# Altium footprint library led.PCBLIB: 116 footprints (part 4 of 8)
Each footprint in its own frame and in the unit in brackets; x right, y up, seen from the top. Pads: shape width x height; smd on the part's side, far side on the other; paste and mask are expansions set on the pad; w line width, h text height; cw(c..) or ccw(c..) is an arc to the next point about the centre after c.
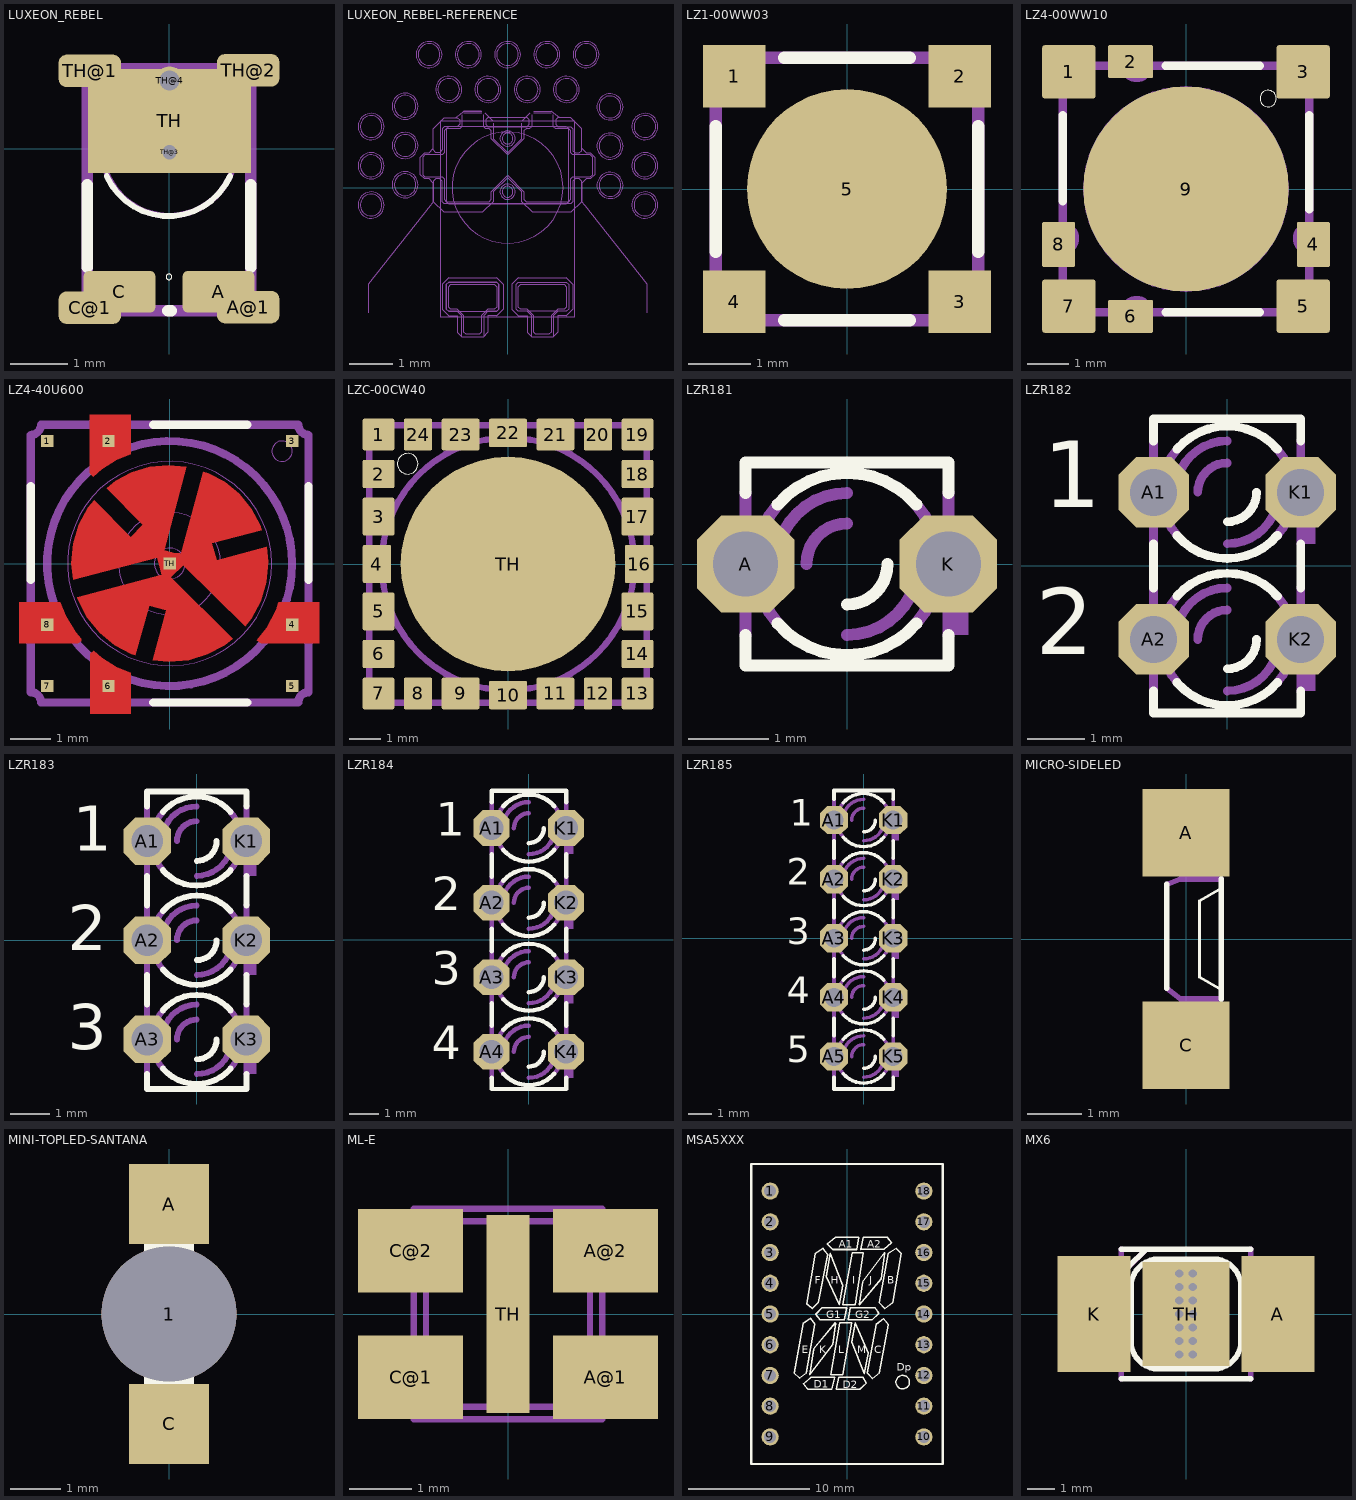
[diagram p3: the footprints below, top view; thin cyan lines are the x and y axes]

## LUXEON_REBEL [mm]
pads (9):
  rrect25% 1.26x0.73 smd: A(0.87,-2.51) C(-0.87,-2.51)
  rrect50% 1.1x0.57 smd: A@1(1.39,-2.78) C@1(-1.39,-2.79) TH@1(-1.39,1.37) TH@2(1.39,1.38)
  rect 2.86x1.83 smd: TH(0.01,0.49)
  round 0.35 hole 0.25: TH@3(0.01,-0.06)
  round 0.5 hole 0.35: TH@4(0.01,1.2)
Top Overlay:
  circle w0: c0,-2.248 r0.05
  lines w0.102: -1.095,-0.475 ccw(c-0.01,0.005) 1.075,-0.475
  lines w0.203: -1.435,-2.083 -1.435,-0.627 ; -0.018,-2.845 0.038,-2.845 ; 1.435,-2.083 1.435,-0.627
Top Paste:
  region: -0.52,1.33 -0.53,1.2 -0.489,0.993 -0.372,0.818 -0.197,0.701 0.01,0.66 0.01,0.67 0.01,0.48 -0.197,0.439 -0.372,0.322 -0.489,0.147 -0.53,-0.06 -0.52,-0.06 -0.52,-0.23 -1.37,-0.23 -1.37,1.02 -1.85,1.5 -1.831,1.597 -1.745,1.725 -1.617,1.811 -1.52,1.831 -1.52,1.83 -1.02,1.33
  region: 0.54,-0.23 0.55,-0.06 0.509,0.147 0.392,0.322 0.217,0.439 0.01,0.48 0.01,0.47 0.01,0.66 0.217,0.701 0.392,0.818 0.509,0.993 0.55,1.2 0.54,1.2 0.54,1.33 1.01,1.33 1.51,1.832 1.62,1.81 1.74,1.73 1.82,1.61 1.842,1.5 1.84,1.5 1.37,1.03 1.37,-0.23
  region: 0.37,-2.74 0.37,-2.28 1.37,-2.28 1.37,-2.43 1.85,-2.91 1.831,-3.007 1.745,-3.135 1.617,-3.221 1.52,-3.241 1.52,-3.24 1.02,-2.74
  region: -0.37,-2.28 -0.37,-2.74 -1.01,-2.74 -1.51,-3.242 -1.62,-3.22 -1.74,-3.14 -1.82,-3.02 -1.842,-2.91 -1.84,-2.91 -1.37,-2.44 -1.37,-2.28
Top Solder:
  circle w0: c0.01,-0.06 r0.22
  circle w0: c0.01,1.2 r0.22
  region: 0.37,-2.74 0.37,-2.28 1.37,-2.28 1.37,-2.43 1.85,-2.91 1.831,-3.007 1.745,-3.135 1.617,-3.221 1.52,-3.241 1.52,-3.24 1.02,-2.74
  region: -0.37,-2.28 -0.37,-2.74 -1.01,-2.74 -1.51,-3.242 -1.62,-3.22 -1.74,-3.14 -1.82,-3.02 -1.842,-2.91 -1.84,-2.91 -1.37,-2.44 -1.37,-2.28
  region: -0.52,1.33 -0.53,1.2 -0.489,0.993 -0.372,0.818 -0.197,0.701 0.01,0.66 0.01,0.67 0.01,0.48 -0.197,0.439 -0.372,0.322 -0.489,0.147 -0.53,-0.06 -0.52,-0.06 -0.52,-0.23 -1.37,-0.23 -1.37,1.02 -1.85,1.5 -1.831,1.597 -1.745,1.725 -1.617,1.811 -1.52,1.831 -1.52,1.83 -1.02,1.33
  region: 0.54,-0.23 0.55,-0.06 0.509,0.147 0.392,0.322 0.217,0.439 0.01,0.48 0.01,0.47 0.01,0.66 0.217,0.701 0.392,0.818 0.509,0.993 0.55,1.2 0.54,1.2 0.54,1.33 1.01,1.33 1.51,1.832 1.62,1.81 1.74,1.73 1.82,1.61 1.842,1.5 1.84,1.5 1.37,1.03 1.37,-0.23
Mechanical 16:
  circle w0.102: c0,0 r1.175
  circle w0: c1.25,1.25 r0.05
  lines w0.203: -1.435,-2.845 1.435,-2.845 1.435,1.405 -1.435,1.405 -1.435,-2.845

## LUXEON_REBEL-REFERENCE [mil]
Mechanical 14:
  drawing of 319 lines, arcs and shapes, not listed

## LZ1-00WW03 [mm]
pads (5):
  rect 1x1 smd: 1(-1.8,1.8) 2(1.8,1.8) 3(1.8,-1.8) 4(-1.8,-1.8)
  rrect100% 3.2x3.2 smd: 5(0,0)
Top Overlay:
  lines w0.203: -2.1,-1 -2.1,1 ; -1,-2.1 1,-2.1 ; -1,2.1 1,2.1 ; 2.1,-1 2.1,1
Top Paste:
  region: 0,0 0.254,0 0.254,0.254 0,0.254
  region: 0,0 0.254,0 0.254,0.254 0,0.254
  region: 0,0 0.254,0 0.254,0.254 0,0.254
  region: 0,0 0.254,0 0.254,0.254 0,0.254
Top Solder:
  region: 0,0 0.254,0 0.254,0.254 0,0.254
  region: 0,0 0.254,0 0.254,0.254 0,0.254
  region: 0,0 0.254,0 0.254,0.254 0,0.254
  region: 0,0 0.254,0 0.254,0.254 0,0.254
Mechanical 16:
  lines w0.203: -2.1,-1.8 -2.1,1.8 ccw(c-2.1,2.1) -1.8,2.1 1.8,2.1 ccw(c2.1,2.1) 2.1,1.8 2.1,-1.8 ccw(c2.1,-2.1) 1.8,-2.1 -1.8,-2.1 ccw(c-2.1,-2.1) -2.1,-1.8
  text "+" at 1.2,1.025 h0.86
  text "+" at 1.2,-2.05 h0.86
  text "-" at -1.825,1.05 h0.86
  text "-" at -1.85,-2.05 h0.86

## LZ4-00WW10 [mm]
pads (9):
  rrect10% 1.3x1.3 smd: 1(-2.85,2.85) 3(2.85,2.85) 5(2.85,-2.85) 7(-2.85,-2.85)
  rrect10% 1.1x0.8 smd: 2(-1.35,3.1) 6(-1.35,-3.1)
  rrect10% 0.8x1.1 smd: 4(3.1,-1.35) 8(-3.1,-1.35)
  rrect100% 5x5 smd: 9(0,0)
Top Overlay:
  circle w0: c2,2.2 r0.2
  lines w0.203: -3,-0.3 -3,1.8 ; -0.5,-3 1.8,-3 ; -0.5,3 1.8,3 ; 3,-0.5 3,1.8
Mechanical 16:
  circle w0.203: c0,0 r2.4
  lines w0.203: -3,-3 -3,-1.5 ccw(c-3,-1.2) -2.7,-1.2 ccw(c-3,-1.2) -3,-0.9 -3,3 -1.5,3 ccw(c-1.2,3) -1.2,2.7 ccw(c-1.2,3) -0.9,3 3,3 3,-0.9 ccw(c3,-1.2) 2.7,-1.2 ccw(c3,-1.2) 3,-1.5 3,-3 -0.9,-3 ccw(c-1.2,-3) -1.2,-2.7 ccw(c-1.2,-3) -1.5,-3 -3,-3

## LZ4-40U600 [mm]
pads (9):
  rect 0.3x0.3 smd: 1(-3,3) 2(-1.5,3) 3(3,3) 4(3,-1.5) 5(3,-3) 6(-1.5,-3) 7(-3,-3) 8(-3,-1.5) TH(0,0)
Top Layer:
  region: -2.366,-0.403 -2.407,0.009 -2.359,0.488 -2.22,0.948 -1.993,1.372 -1.848,1.549 -0.951,0.639 -0.653,0.953 -1.544,1.842 -1.323,2.023 -0.924,2.236 -0.491,2.367 -0.04,2.412 0.41,2.367 0.408,2.357 -0.131,0.329 0.277,0.219 0.824,2.251 0.944,2.215 1.351,1.997 1.708,1.704 2.001,1.347 2.218,0.94 2.254,0.821 2.252,0.82 1.037,0.493 1.154,0.083 2.38,0.414 2.419,0.025 2.371,-0.459 2.229,-0.925 2,-1.355 1.848,-1.54 0.332,-0.045 0.032,-0.33 1.54,-1.839 1.349,-1.996 0.924,-2.223 0.463,-2.363 -0.017,-2.41 -0.408,-2.371 -0.408,-2.367 -0.086,-1.148 -0.495,-1.031 -0.838,-2.247 -0.923,-2.222 -1.345,-1.996 -1.714,-1.693 -2.018,-1.323 -2.243,-0.901 -2.264,-0.832 -2.259,-0.83 -0.192,-0.279 -0.307,0.144
  region: 0,0 0.254,0 0.254,0.254 0,0.254
  region: -1.954,3.641 -0.956,3.641 -0.958,2.675 -1.296,2.535 -1.66,2.312 -1.876,2.128 -1.875,2.127 -1.885,2.14 -1.954,2.21
  region: 0,0 0.254,0 0.254,0.254 0,0.254
  region: 3.657,-0.953 3.657,-1.947 2.226,-1.947 2.128,-1.878 2.375,-1.576 2.611,-1.134 2.663,-0.963 2.662,-0.962 2.671,-0.953
  region: 0,0 0.254,0 0.254,0.254 0,0.254
  region: -1.943,-3.673 -1.943,-2.205 -1.934,-2.194 -1.863,-2.138 -1.663,-2.308 -1.289,-2.537 -0.957,-2.675 -0.956,-2.671 -0.956,-3.673
  region: 0,0 0.254,0 0.254,0.254 0,0.254
  region: -3.689,-1.95 -3.689,-0.944 -2.735,-0.944 -2.678,-0.951 -2.54,-1.283 -2.296,-1.682 -2.163,-1.838 -2.163,-1.837 -2.162,-1.908 -2.242,-1.95
Top Overlay:
  lines w0.2: -3.4,-0.4 -3.4,1.9 ; -0.4,-3.4 1.9,-3.4 ; -0.4,3.4 1.9,3.4 ; 3.4,-0.4 3.4,1.9
Top Paste:
  region: 0,0 0.254,0 0.254,0.254 0,0.254
  region: -1.954,3.641 -0.956,3.641 -0.958,2.675 -1.296,2.535 -1.66,2.312 -1.876,2.128 -1.875,2.127 -1.885,2.14 -1.954,2.21
  region: 0,0 0.254,0 0.254,0.254 0,0.254
  region: 3.657,-0.953 3.657,-1.947 2.226,-1.947 2.128,-1.878 2.375,-1.576 2.611,-1.134 2.663,-0.963 2.662,-0.962 2.671,-0.953
  region: 0,0 0.254,0 0.254,0.254 0,0.254
  region: -1.943,-3.673 -1.943,-2.205 -1.934,-2.194 -1.863,-2.138 -1.663,-2.308 -1.289,-2.537 -0.957,-2.675 -0.956,-2.671 -0.956,-3.673
  region: 0,0 0.254,0 0.254,0.254 0,0.254
  region: -3.689,-1.95 -3.689,-0.944 -2.735,-0.944 -2.678,-0.951 -2.54,-1.283 -2.296,-1.682 -2.163,-1.838 -2.163,-1.837 -2.162,-1.908 -2.242,-1.95
  region: -2.366,-0.403 -2.407,0.009 -2.359,0.488 -2.22,0.948 -1.993,1.372 -1.848,1.549 -0.951,0.639 -0.653,0.953 -1.544,1.842 -1.323,2.023 -0.924,2.236 -0.491,2.367 -0.04,2.412 0.41,2.367 0.408,2.357 -0.131,0.329 0.277,0.219 0.824,2.251 0.944,2.215 1.351,1.997 1.708,1.704 2.001,1.347 2.218,0.94 2.254,0.821 2.252,0.82 1.037,0.493 1.154,0.083 2.38,0.414 2.419,0.025 2.371,-0.459 2.229,-0.925 2,-1.355 1.848,-1.54 0.332,-0.045 0.032,-0.33 1.54,-1.839 1.349,-1.996 0.924,-2.223 0.463,-2.363 -0.017,-2.41 -0.408,-2.371 -0.408,-2.367 -0.086,-1.148 -0.495,-1.031 -0.838,-2.247 -0.923,-2.222 -1.345,-1.996 -1.714,-1.693 -2.018,-1.323 -2.243,-0.901 -2.264,-0.832 -2.259,-0.83 -0.192,-0.279 -0.307,0.144
Top Solder:
  region: -2.366,-0.403 -2.407,0.009 -2.359,0.488 -2.22,0.948 -1.993,1.372 -1.848,1.549 -0.951,0.639 -0.653,0.953 -1.544,1.842 -1.323,2.023 -0.924,2.236 -0.491,2.367 -0.04,2.412 0.41,2.367 0.408,2.357 -0.131,0.329 0.277,0.219 0.824,2.251 0.944,2.215 1.351,1.997 1.708,1.704 2.001,1.347 2.218,0.94 2.254,0.821 2.252,0.82 1.037,0.493 1.154,0.083 2.38,0.414 2.419,0.025 2.371,-0.459 2.229,-0.925 2,-1.355 1.848,-1.54 0.332,-0.045 0.032,-0.33 1.54,-1.839 1.349,-1.996 0.924,-2.223 0.463,-2.363 -0.017,-2.41 -0.408,-2.371 -0.408,-2.367 -0.086,-1.148 -0.495,-1.031 -0.838,-2.247 -0.923,-2.222 -1.345,-1.996 -1.714,-1.693 -2.018,-1.323 -2.243,-0.901 -2.264,-0.832 -2.259,-0.83 -0.192,-0.279 -0.307,0.144
  region: 0,0 0.254,0 0.254,0.254 0,0.254
  region: -1.954,3.641 -0.956,3.641 -0.958,2.675 -1.296,2.535 -1.66,2.312 -1.876,2.128 -1.875,2.127 -1.885,2.14 -1.954,2.21
  region: 0,0 0.254,0 0.254,0.254 0,0.254
  region: 3.657,-0.953 3.657,-1.947 2.226,-1.947 2.128,-1.878 2.375,-1.576 2.611,-1.134 2.663,-0.963 2.662,-0.962 2.671,-0.953
  region: 0,0 0.254,0 0.254,0.254 0,0.254
  region: -1.943,-3.673 -1.943,-2.205 -1.934,-2.194 -1.863,-2.138 -1.663,-2.308 -1.289,-2.537 -0.957,-2.675 -0.956,-2.671 -0.956,-3.673
  region: 0,0 0.254,0 0.254,0.254 0,0.254
  region: -3.689,-1.95 -3.689,-0.944 -2.735,-0.944 -2.678,-0.951 -2.54,-1.283 -2.296,-1.682 -2.163,-1.838 -2.163,-1.837 -2.162,-1.908 -2.242,-1.95
Mechanical 14:
  circle w0: c0,0 r1.25
  circle w0: c0,0 r0.38
  circle w0: c0,0 r2.5
Mechanical 16:
  circle w0.2: c0,0 r3
  circle w0: c2.75,2.75 r0.25
  lines w0.2: -3.4,-3.15 -3.4,-1.85 ccw(c-3.4,-1.6) -3.15,-1.6 ccw(c-3.4,-1.6) -3.4,-1.35 -3.4,3.15 ccw(c-3.4,3.4) -3.15,3.4 -1.85,3.4 ccw(c-1.6,3.4) -1.6,3.15 ccw(c-1.6,3.4) -1.35,3.4 3.15,3.4 ccw(c3.4,3.4) 3.4,3.15 3.4,-1.35 ccw(c3.4,-1.6) 3.15,-1.6 ccw(c3.4,-1.6) 3.4,-1.85 3.4,-3.15 ccw(c3.4,-3.4) 3.15,-3.4 -1.35,-3.4 ccw(c-1.6,-3.4) -1.6,-3.15 ccw(c-1.6,-3.4) -1.85,-3.4 -3.15,-3.4 ccw(c-3.4,-3.4) -3.4,-3.15

## LZC-00CW40 [mm]
pads (25):
  rrect10% 1x1 smd: 1(-4.1,4.1) 7(-4.1,-4.1) 13(4.1,-4.1) 19(4.1,4.1)
  rrect10% 1x0.9 smd: 2(-4.1,2.85) 6(-4.1,-2.85) 14(4.1,-2.85) 18(4.1,2.85)
  rrect10% 1x1.2 smd: 3(-4.1,1.5) 5(-4.1,-1.5) 15(4.1,-1.5) 17(4.1,1.5)
  rrect10% 0.9x1.2 smd: 4(-4.15,0) 16(4.15,0)
  rrect10% 0.9x1 smd: 8(-2.85,-4.1) 12(2.85,-4.1) 20(2.85,4.1) 24(-2.85,4.1)
  rrect10% 1.2x1 smd: 9(-1.5,-4.1) 11(1.5,-4.1) 21(1.5,4.1) 23(-1.5,4.1)
  rrect10% 1.2x0.9 smd: 10(0,-4.15) 22(0,4.15)
  rrect100% 6.8x6.8 smd: TH(0,0)
Top Overlay:
  circle w0: c-3.175,3.175 r0.326
Mechanical 16:
  circle w0.203: c0,0 r4
  rectangle: 0.2,0.2 1.2,1.2
  rectangle: -1.2,0.2 -0.2,1.2
  rectangle: -1.2,1.6 -0.2,2.6
  rectangle: -2.6,0.2 -1.6,1.2
  rectangle: 0.2,1.6 1.2,2.6
  rectangle: 1.6,0.2 2.6,1.2
  rectangle: -1.2,-1.2 -0.2,-0.2
  rectangle: 0.2,-1.2 1.2,-0.2
  rectangle: 1.6,-1.2 2.6,-0.2
  rectangle: -2.6,-1.2 -1.6,-0.2
  rectangle: -1.2,-2.6 -0.2,-1.6
  rectangle: 0.2,-2.6 1.2,-1.6
  lines w0.203: -4.4,-4.4 -4.4,4.4 4.4,4.4 4.4,-4.4 -4.4,-4.4

## LZR181 [mil]
pads (2):
  oct 48x48 hole 32: A(-50,0) K(50,0)
Top Overlay:
  lines w6: -50,-35 -50,-50 50,-50 50,-35 ; -50,35 -50,50 50,50 50,35 ; -34.17,-29.29 ccw(c-0.01,0) 0,-45 ccw(c0.01,0) 34.17,-29.29 ; -34.17,29.29 cw(c-0.01,0) 0,45 cw(c0.01,0) 34.17,29.29 ; 0,-20 ccw(c0,0) 20,0
Mechanical 16:
  rectangle: 50,-35 60,10
  rectangle: -60,-10 -50,10
  lines w6: -50,-35 -50,35 ; -35,0 cw(c0,0) 0,35 ; -34.17,-29.29 cw(c0,-0.01) -45,0 cw(c0,0.01) -34.17,29.29 ; -20,0 cw(c0,0) 0,20 ; 0,-35 ccw(c0,0) 35,0 ; 34.17,-29.29 ccw(c0,-0.01) 45,0 ccw(c0,0.01) 34.17,29.29 ; 50,-35 50,35

## LZR182 [mil]
pads (4):
  oct 48x48 hole 32: A1(-50,50) A2(-50,-50) K1(50,50) K2(50,-50)
Top Overlay:
  lines w6: -50,-85 -50,-100 50,-100 50,-85 ; -50,-15 -50,15 ; -50,85 -50,100 50,100 50,85 ; -34.17,-79.29 ccw(c-0.01,-50) 0,-95 ccw(c0.01,-50) 34.17,-79.29 ; -34.17,-20.71 cw(c-0.01,-50) 0,-5 cw(c0.01,-50) 34.17,-20.71 ; -34.17,20.71 ccw(c-0.01,50) 0,5 ccw(c0.01,50) 34.17,20.71 ; -34.17,79.29 cw(c-0.01,50) 0,95 cw(c0.01,50) 34.17,79.29 ; 0,-70 ccw(c0,-50) 20,-50 ; 0,30 ccw(c0,50) 20,50 ; 50,-15 50,15
  text "1" at -125,25 h77.5
  text "2" at -130,-75 h77.5
Mechanical 16:
  rectangle: 50,15 60,60
  rectangle: -60,40 -50,60
  rectangle: 50,-85 60,-40
  rectangle: -60,-60 -50,-40
  lines w6: -50,-85 -50,-15 ; -50,15 -50,85 ; -35,-50 cw(c0,-50) 0,-15 ; -35,50 cw(c0,50) 0,85 ; -34.16,-79.29 cw(c0,-50) -45,-50 cw(c0,-49.99) -34.17,-20.71 ; -34.17,20.71 cw(c0,49.99) -45,50 cw(c0,50) -34.16,79.29 ; -20,-50 cw(c0,-50) 0,-30 ; -20,50 cw(c0,50) 0,70 ; 0,-85 ccw(c0,-50) 35,-50 ; 0,15 ccw(c0,50) 35,50 ; 34.17,-79.29 ccw(c0,-50.01) 45,-50 ccw(c0,-49.99) 34.17,-20.71 ; 34.17,20.71 ccw(c0,49.99) 45,50 ccw(c0,50.01) 34.17,79.29 ; 50,-85 50,-15 ; 50,15 50,85

## LZR183 [mil]
pads (6):
  oct 48x48 hole 32: A1(-50,100) A2(-50,0) A3(-50,-100) K1(50,100) K2(50,0) K3(50,-100)
Top Overlay:
  lines w6: -50,-135 -50,-150 50,-150 50,-135 ; -50,-65 -50,-35 ; -50,35 -50,65 ; -50,135 -50,150 50,150 50,135 ; -34.17,-129.29 ccw(c-0.01,-100) 0,-145 ccw(c0.01,-100) 34.17,-129.29 ; -34.17,-70.71 cw(c-0.01,-100) 0,-55 cw(c0.01,-100) 34.17,-70.71 ; -34.17,-29.29 ccw(c-0.01,0) 0,-45 ccw(c0.01,0) 34.17,-29.29 ; -34.17,29.29 cw(c-0.01,0) 0,45 cw(c0.01,0) 34.17,29.29 ; -34.17,70.71 ccw(c-0.01,100) 0,55 ccw(c0.01,100) 34.17,70.71 ; -34.17,129.29 cw(c-0.01,100) 0,145 cw(c0.01,100) 34.17,129.29 ; 0,-120 ccw(c0,-100) 20,-100 ; 0,-20 ccw(c0,0) 20,0 ; 0,80 ccw(c0,100) 20,100 ; 50,-65 50,-35 ; 50,35 50,65
  text "1" at -125,75 h77.5
  text "2" at -130,-25 h77.5
  text "3" at -130,-125 h77.5
Mechanical 16:
  rectangle: 50,65 60,110
  rectangle: -60,90 -50,110
  rectangle: 50,-35 60,10
  rectangle: -60,-10 -50,10
  rectangle: 50,-135 60,-90
  rectangle: -60,-110 -50,-90
  lines w6: -50,-135 -50,-65 ; -50,-35 -50,35 ; -50,65 -50,135 ; -35,-100 cw(c0,-100) 0,-65 ; -35,0 cw(c0,0) 0,35 ; -35,100 cw(c0,100) 0,135 ; -34.16,-129.29 cw(c0,-100) -45,-100 cw(c0,-99.99) -34.17,-70.71 ; -34.17,-29.29 cw(c0,-0.01) -45,0 cw(c0,0.01) -34.17,29.29 ; -34.17,70.71 cw(c0,99.99) -45,100 cw(c0,100) -34.16,129.29 ; -20,-100 cw(c0,-100) 0,-80 ; -20,0 cw(c0,0) 0,20 ; -20,100 cw(c0,100) 0,120 ; 0,-135 ccw(c0,-100) 35,-100 ; 0,-35 ccw(c0,0) 35,0 ; 0,65 ccw(c0,100) 35,100 ; 34.17,-129.29 ccw(c0,-100.01) 45,-100 ccw(c0,-99.99) 34.17,-70.71 ; 34.17,-29.29 ccw(c0,-0.01) 45,0 ccw(c0,0.01) 34.17,29.29 ; 34.17,70.71 ccw(c0,99.99) 45,100 ccw(c0,100.01) 34.17,129.29 ; 50,-135 50,-65 ; 50,-35 50,35 ; 50,65 50,135

## LZR184 [mil]
pads (8):
  oct 48x48 hole 32: A1(-50,150) A2(-50,50) A3(-50,-50) A4(-50,-150) K1(50,150) K2(50,50) K3(50,-50) K4(50,-150)
Top Overlay:
  lines w6: -50,-185 -50,-200 50,-200 50,-185 ; -50,-115 -50,-85 ; -50,-15 -50,15 ; -50,85 -50,115 ; -50,185 -50,200 50,200 50,185 ; -34.17,-179.29 ccw(c-0.01,-150) 0,-195 ccw(c0.01,-150) 34.17,-179.29 ; -34.17,-120.71 cw(c-0.01,-150) 0,-105 cw(c0.01,-150) 34.17,-120.71 ; -34.17,-79.29 ccw(c-0.01,-50) 0,-95 ccw(c0.01,-50) 34.17,-79.29 ; -34.17,-20.71 cw(c-0.01,-50) 0,-5 cw(c0.01,-50) 34.17,-20.71 ; -34.17,20.71 ccw(c-0.01,50) 0,5 ccw(c0.01,50) 34.17,20.71 ; -34.17,79.29 cw(c-0.01,50) 0,95 cw(c0.01,50) 34.17,79.29 ; -34.17,120.71 ccw(c-0.01,150) 0,105 ccw(c0.01,150) 34.17,120.71 ; -34.17,179.29 cw(c-0.01,150) 0,195 cw(c0.01,150) 34.17,179.29 ; 0,-170 ccw(c0,-150) 20,-150 ; 0,-70 ccw(c0,-50) 20,-50 ; 0,30 ccw(c0,50) 20,50 ; 0,130 ccw(c0,150) 20,150 ; 50,-115 50,-85 ; 50,-15 50,15 ; 50,85 50,115
  text "1" at -125,125 h77.5
  text "2" at -130,25 h77.5
  text "3" at -130,-75 h77.5
  text "4" at -130,-175 h77.5
Mechanical 16:
  rectangle: 50,115 60,160
  rectangle: -60,140 -50,160
  rectangle: 50,15 60,60
  rectangle: -60,40 -50,60
  rectangle: 50,-85 60,-40
  rectangle: -60,-60 -50,-40
  rectangle: 50,-185 60,-140
  rectangle: -60,-160 -50,-140
  lines w6: -50,-185 -50,-115 ; -50,-85 -50,-15 ; -50,15 -50,85 ; -50,115 -50,185 ; -35,-150 cw(c0,-150) 0,-115 ; -35,-50 cw(c0,-50) 0,-15 ; -35,50 cw(c0,50) 0,85 ; -35,150 cw(c0,150) 0,185 ; -34.16,-179.29 cw(c0,-150) -45,-150 cw(c0,-149.99) -34.17,-120.71 ; -34.16,-79.29 cw(c0,-50) -45,-50 cw(c0,-49.99) -34.17,-20.71 ; -34.17,20.71 cw(c0,49.99) -45,50 cw(c0,50) -34.16,79.29 ; -34.17,120.71 cw(c0,149.99) -45,150 cw(c0,150) -34.16,179.29 ; -20,-150 cw(c0,-150) 0,-130 ; -20,-50 cw(c0,-50) 0,-30 ; -20,50 cw(c0,50) 0,70 ; -20,150 cw(c0,150) 0,170 ; 0,-185 ccw(c0,-150) 35,-150 ; 0,-85 ccw(c0,-50) 35,-50 ; 0,15 ccw(c0,50) 35,50 ; 0,115 ccw(c0,150) 35,150 ; 34.17,-179.29 ccw(c0,-150.01) 45,-150 ccw(c0,-149.99) 34.17,-120.71 ; 34.17,-79.29 ccw(c0,-50.01) 45,-50 ccw(c0,-49.99) 34.17,-20.71 ; 34.17,20.71 ccw(c0,49.99) 45,50 ccw(c0,50.01) 34.17,79.29 ; 34.17,120.71 ccw(c0,149.99) 45,150 ccw(c0,150.01) 34.17,179.29 ; 50,-185 50,-115 ; 50,-85 50,-15 ; 50,15 50,85 ; 50,115 50,185

## LZR185 [mil]
pads (10):
  oct 48x48 hole 32: A1(-50,200) A2(-50,100) A3(-50,0) A4(-50,-100) A5(-50,-200) K1(50,200) K2(50,100) K3(50,0) K4(50,-100) K5(50,-200)
Top Overlay:
  lines w6: -50,-235 -50,-255 50,-255 50,-235 ; -50,-165 -50,-135 ; -50,-65 -50,-35 ; -50,35 -50,65 ; -50,135 -50,165 ; -50,235 -50,250 50,250 50,235 ; -34.17,-229.29 ccw(c-0.01,-200) 0,-245 ccw(c0.01,-200) 34.17,-229.29 ; -34.17,-170.71 cw(c-0.01,-200) 0,-155 cw(c0.01,-200) 34.17,-170.71 ; -34.17,-129.29 ccw(c-0.01,-100) 0,-145 ccw(c0.01,-100) 34.17,-129.29 ; -34.17,-70.71 cw(c-0.01,-100) 0,-55 cw(c0.01,-100) 34.17,-70.71 ; -34.17,-29.29 ccw(c-0.01,0) 0,-45 ccw(c0.01,0) 34.17,-29.29 ; -34.17,29.29 cw(c-0.01,0) 0,45 cw(c0.01,0) 34.17,29.29 ; -34.17,70.71 ccw(c-0.01,100) 0,55 ccw(c0.01,100) 34.17,70.71 ; -34.17,129.29 cw(c-0.01,100) 0,145 cw(c0.01,100) 34.17,129.29 ; -34.17,170.71 ccw(c-0.01,200) 0,155 ccw(c0.01,200) 34.17,170.71 ; -34.17,229.29 cw(c-0.01,200) 0,245 cw(c0.01,200) 34.17,229.29 ; 0,-220 ccw(c0,-200) 20,-200 ; 0,-120 ccw(c0,-100) 20,-100 ; 0,-20 ccw(c0,0) 20,0 ; 0,80 ccw(c0,100) 20,100 ; 0,180 ccw(c0,200) 20,200 ; 50,-165 50,-135 ; 50,-65 50,-35 ; 50,35 50,65 ; 50,135 50,165
  text "1" at -125,175 h77.5
  text "2" at -130,75 h77.5
  text "3" at -130,-25 h77.5
  text "4" at -130,-125 h77.5
  text "5" at -130,-225 h77.5
Mechanical 16:
  rectangle: 50,165 60,210
  rectangle: -60,190 -50,210
  rectangle: 50,65 60,110
  rectangle: -60,90 -50,110
  rectangle: 50,-35 60,10
  rectangle: -60,-10 -50,10
  rectangle: 50,-135 60,-90
  rectangle: -60,-110 -50,-90
  rectangle: 50,-235 60,-190
  rectangle: -60,-210 -50,-190
  lines w6: -50,-235 -50,-165 ; -50,-135 -50,-65 ; -50,-35 -50,35 ; -50,65 -50,135 ; -50,165 -50,235 ; -35,-200 cw(c0,-200) 0,-165 ; -35,-100 cw(c0,-100) 0,-65 ; -35,0 cw(c0,0) 0,35 ; -35,100 cw(c0,100) 0,135 ; -35,200 cw(c0,200) 0,235 ; -34.16,-229.29 cw(c0,-200) -45,-200 cw(c0,-199.99) -34.17,-170.71 ; -34.16,-129.29 cw(c0,-100) -45,-100 cw(c0,-99.99) -34.17,-70.71 ; -34.17,-29.29 cw(c0,-0.01) -45,0 cw(c0,0.01) -34.17,29.29 ; -34.17,70.71 cw(c0,99.99) -45,100 cw(c0,100) -34.16,129.29 ; -34.17,170.71 cw(c0,199.99) -45,200 cw(c0,200) -34.16,229.29 ; -20,-200 cw(c0,-200) 0,-180 ; -20,-100 cw(c0,-100) 0,-80 ; -20,0 cw(c0,0) 0,20 ; -20,100 cw(c0,100) 0,120 ; -20,200 cw(c0,200) 0,220 ; 0,-235 ccw(c0,-200) 35,-200 ; 0,-135 ccw(c0,-100) 35,-100 ; 0,-35 ccw(c0,0) 35,0 ; 0,65 ccw(c0,100) 35,100 ; 0,165 ccw(c0,200) 35,200 ; 34.17,-229.29 ccw(c0,-200.01) 45,-200 ccw(c0,-199.99) 34.17,-170.71 ; 34.17,-129.29 ccw(c0,-100.01) 45,-100 ccw(c0,-99.99) 34.17,-70.71 ; 34.17,-29.29 ccw(c0,-0.01) 45,0 ccw(c0,0.01) 34.17,29.29 ; 34.17,70.71 ccw(c0,99.99) 45,100 ccw(c0,100.01) 34.17,129.29 ; 34.17,170.71 ccw(c0,199.99) 45,200 ccw(c0,200.01) 34.17,229.29 ; 50,-235 50,-165 ; 50,-135 50,-65 ; 50,-35 50,35 ; 50,65 50,135 ; 50,165 50,235

## MICRO-SIDELED [mil]
pads (2):
  rect 62.99x62.99 smd: A(0,76.77) C(0,-76.77)
Top Overlay:
  lines w2: 23.62,-35.43 9.84,-27.56 9.84,27.56 23.62,35.43
  lines w4: -13.78,-35.43 -13.78,39.37 ; 25.59,-43.31 25.59,43.31
Top Paste:
  rectangle: -13.78,-68.9 13.78,-45.28
  rectangle: -13.78,45.28 13.78,68.9
Top Solder:
  rectangle: -15.75,43.31 15.75,70.87
  rectangle: -15.75,-70.87 15.75,-43.31
Mechanical 16:
  rectangle: -4.92,44.29 4.92,68.9
  rectangle: -4.92,-68.9 4.92,-44.29
  lines w4: -13.78,-35.43 -3.94,-43.31 25.59,-43.31 ; -13.78,39.37 -3.94,43.31 25.59,43.31

## MINI-TOPLED-SANTANA [mil]
pads (3):
  round 106.3 hole 106.3: 1(0,0)
  rect 62.99x62.99 smd: A(0,86.61) C(0,-86.61)
Top Overlay:
  rectangle: -7.87,-15.75 5.91,-1.97
  rectangle: -19.69,39.37 19.69,55.12
  rectangle: -19.69,-55.12 19.69,-41.34
  lines w4: 13.78,-39.37 27.56,-39.37 27.56,-25.59 ; 13.78,-39.37 -27.56,-39.37 -27.56,39.37 27.56,39.37 27.56,-25.59 ; 13.78,-39.37 27.56,-25.59 ; -17.72,-27.56 17.72,-27.56 17.72,27.56 -17.72,27.56 -17.72,-27.56
Top Paste:
  rectangle: -19.69,-80.71 19.69,-61.02
  rectangle: -19.69,61.02 19.69,80.71
Top Solder:
  rectangle: -21.65,59.06 21.65,82.68
  rectangle: -21.65,-82.68 21.65,-59.06
Mechanical 16:
  rectangle: -19.69,-82.68 19.69,-55.12
  rectangle: -19.69,55.12 19.69,80.71

## ML-E [mm]
pads (5):
  rect 1.7x1.35 smd: A@1(1.575,-1.025) A@2(1.575,1.025) C@1(-1.575,-1.025) C@2(-1.575,1.025)
  rect 0.7x3.2 smd: TH(0,0)
Top Paste:
  region: 0.275,1.25 -0.25,1.25 -0.25,-1.25 0.275,-1.25
  region: 2.125,1.6 0.825,1.6 0.825,0.45 2.125,0.45
  region: 2.125,-0.45 0.825,-0.45 0.825,-1.6 2.125,-1.6
  rectangle: -2.125,-1.6 -0.825,-0.45
  rectangle: -2.125,0.45 -0.825,1.6
Top Solder:
  region: 2.425,1.7 0.725,1.7 0.725,0.35 2.425,0.35
  region: 0.45,1.7 -0.45,1.7 -0.45,-1.7 0.45,-1.7
  region: 2.425,-0.35 0.725,-0.35 0.725,-1.7 2.425,-1.7
  rectangle: -2.425,-1.7 -0.725,-0.35
  rectangle: -2.425,0.35 -0.725,1.7
Mechanical 16:
  region: 1.725,1.4 1.525,1.4 1.525,0.65 1.725,0.65
  region: 1.725,-0.65 1.525,-0.65 1.525,-1.4 1.725,-1.4
  rectangle: -1.725,-1.4 -1.525,-0.65
  rectangle: -1.725,0.65 -1.525,1.4
  region: 0,0 0.254,0 0.254,0.254 0,0.254
  lines w0.102: -1.525,-1.7 1.525,-1.7 1.525,1.7 -1.525,1.7 -1.525,-1.7 ; -1.325,-0.9 ccw(c-0.725,-0.9) -0.725,-1.5 0.725,-1.5 ccw(c0.725,-0.9) 1.325,-0.9 1.325,0.9 ccw(c0.725,0.9) 0.725,1.5 -0.725,1.5 ccw(c-0.725,0.9) -1.325,0.9 -1.325,-0.9

## MSA5XXX [mil]
pads (18):
  round 56 hole 39.37: 1(-250,400) 2(-250,300) 3(-250,200) 4(-250,100) 5(-250,0) 6(-250,-100) 7(-250,-200) 8(-250,-300) 9(-250,-400) 10(250,-400) 11(250,-300) 12(250,-200) 13(250,-100) 14(250,0) 15(250,100) 16(250,200) 17(250,300) 18(250,400)
Top Overlay:
  circle w5: c181.28,-221.76 r21.99
  lines w5: -118.89,-13.49 -142.5,-30.35 -172.01,-192.25 -154.3,-208.27 -132.38,-192.25 -104.56,-32.89 -118.05,-14.33 ; -53.96,196.46 -13.49,92.75 -25.3,30.35 -67.46,122.26 -53.96,197.31 ; -37.94,-28.67 -108.77,-113.83 -121.42,-197.31 -46.38,-99.5 -36.26,-29.51 ; 26.14,-29.51 16.02,-91.07 55.65,-193.93 69.14,-127.32 26.98,-28.67 ; -141.66,-227.66 -127.32,-244.52 -48.91,-244.52 -40.47,-205.74 -117.2,-205.74 -141.66,-227.66 ; -130.7,33.73 -112.99,17.7 -93.59,37.1 -63.24,193.93 -78.42,214.17 -103.71,195.62 -130.7,33.73 ; -102.03,-0.84 -86.85,-19.39 -9.28,-19.39 -0.84,21.08 -80.95,21.08 -102.03,-0.84 ; -64.08,227.66 -46.38,209.95 31.2,209.95 38.79,249.58 -37.94,249.58 -64.08,227.66 ; -53.12,-197.31 -13.49,-197.31 16.02,-28.67 -23.61,-28.67 -53.12,-197.31 ; -35.41,-244.52 41.32,-244.52 63.24,-224.29 51.44,-205.74 -26.98,-205.74 -35.41,-244.52 ; -13.49,30.35 26.98,30.35 53.12,199.83 16.86,199.83 -13.49,30.35 ; 4.22,-19.39 80.94,-19.4 103.71,2.53 91.06,21.08 10.96,21.08 4.22,-19.39 ; 40.47,30.35 111.3,114.67 122.26,199.83 50.59,104.56 40.47,30.35 ; 44.69,209.95 120.57,210.8 145.03,231.88 130.69,249.58 52.28,249.58 44.69,209.95 ; 65.77,-192.25 82.63,-209.96 105.4,-192.25 134.07,-34.57 118.89,-15.18 95.28,-32.89 65.77,-192.25 ; 105.4,36.26 123.11,17.7 148.4,37.1 176.22,197.31 160.2,213.33 134.91,198.15 105.4,36.26
  lines w8: -311.02,-488.19 311.02,-488.19 311.02,488.19 -311.02,488.19 -311.02,-488.19
  text "A1" at -26.98,215.85 h25.5
  text "A2" at 66.61,215.85 h25.5
  text "B" at 131.54,97.81 h25.5
  text "C" at 89.38,-127.32 h25.5
  text "D2" at -14.33,-241.15 h25.5
  text "D1" at -107.93,-240.31 h25.5
  text "E" at -146.72,-127.32 h25.5
  text "F" at -105.4,97.81 h25.5
  text "G1" at -68.3,-14.33 h25.5
  text "G2" at 26.98,-14.33 h25.5
  text "H" at -52.28,97.81 h25.5
  text "I" at 16.86,97.81 h25.5
  text "J" at 71.67,97.81 h25.5
  text "K" at -91.07,-127.32 h25.5
  text "L" at -27.83,-127.32 h25.5
  text "M" at 33.72,-127.32 h25.5
  text "Dp" at 161.89,-184.66 h25.5

## MX6 [mm]
pads (17):
  rect 2.7x4.3 smd: A(3.4,0) K(-3.4,0)
  rect 3.23x3.84 smd: TH(0,0)
  rect 0.5x0.5 hole 0.3: TH@1(-0.25,1.5) TH@2(-0.25,1) TH@3(-0.25,0.5) TH@4(-0.25,0) TH@5(-0.25,-0.5) TH@6(-0.25,-1) TH@7(-0.25,-1.5) TH@8(0.25,1.5) TH@9(0.25,1) TH@10(0.25,0.5) TH@11(0.25,0) TH@12(0.25,-0.5) TH@13(0.25,-1) TH@14(0.25,-1.5)
Top Overlay:
  lines w0.203: -2.4,-2.4 2.4,-2.4 ; -2.4,2.4 2.4,2.4 ; -2.125,1.75 -1.5,2.375 ; -2.032,-1.016 -2.032,1.016 cw(c-1.016,1.016) -1.016,2.032 1.016,2.032 cw(c1.016,1.016) 2.032,1.016 2.032,-1.016 cw(c1.016,-1.016) 1.016,-2.032 -1.016,-2.032 cw(c-1.016,-1.016) -2.032,-1.016
Top Paste:
  rectangle: -0.5,-1.75 0.5,1.75
  rectangle: -3.625,-2 -2.25,2
  region: 3.625,2 2.25,2 2.25,-2 3.625,-2
Top Solder:
  rectangle: -4,-2.125 -2.1,2.125
  region: 4,2.125 2.1,2.125 2.1,-2.125 4,-2.125
  rectangle: -0.65,-1.95 0.65,1.95
Mechanical 16:
  rectangle: -3.25,-2.1 -2.5,2.1
  region: 3.25,2.1 2.5,2.1 2.5,-2.1 3.25,-2.1
  lines w0.203: -2.4,-2.4 -2.4,2.4 ; -2.375,1.5 -1.5,2.375 ; 2.4,-2.4 2.4,2.4